# Altium footprint library TT_Pcb.PcbLib: 42 footprints (part 2 of 3)
Each footprint in its own frame and in the unit in brackets; x right, y up, seen from the top. Pads: shape width x height; smd on the part's side, far side on the other; paste and mask are expansions set on the pad; w line width, h text height; cw(c..) or ccw(c..) is an arc to the next point about the centre after c.
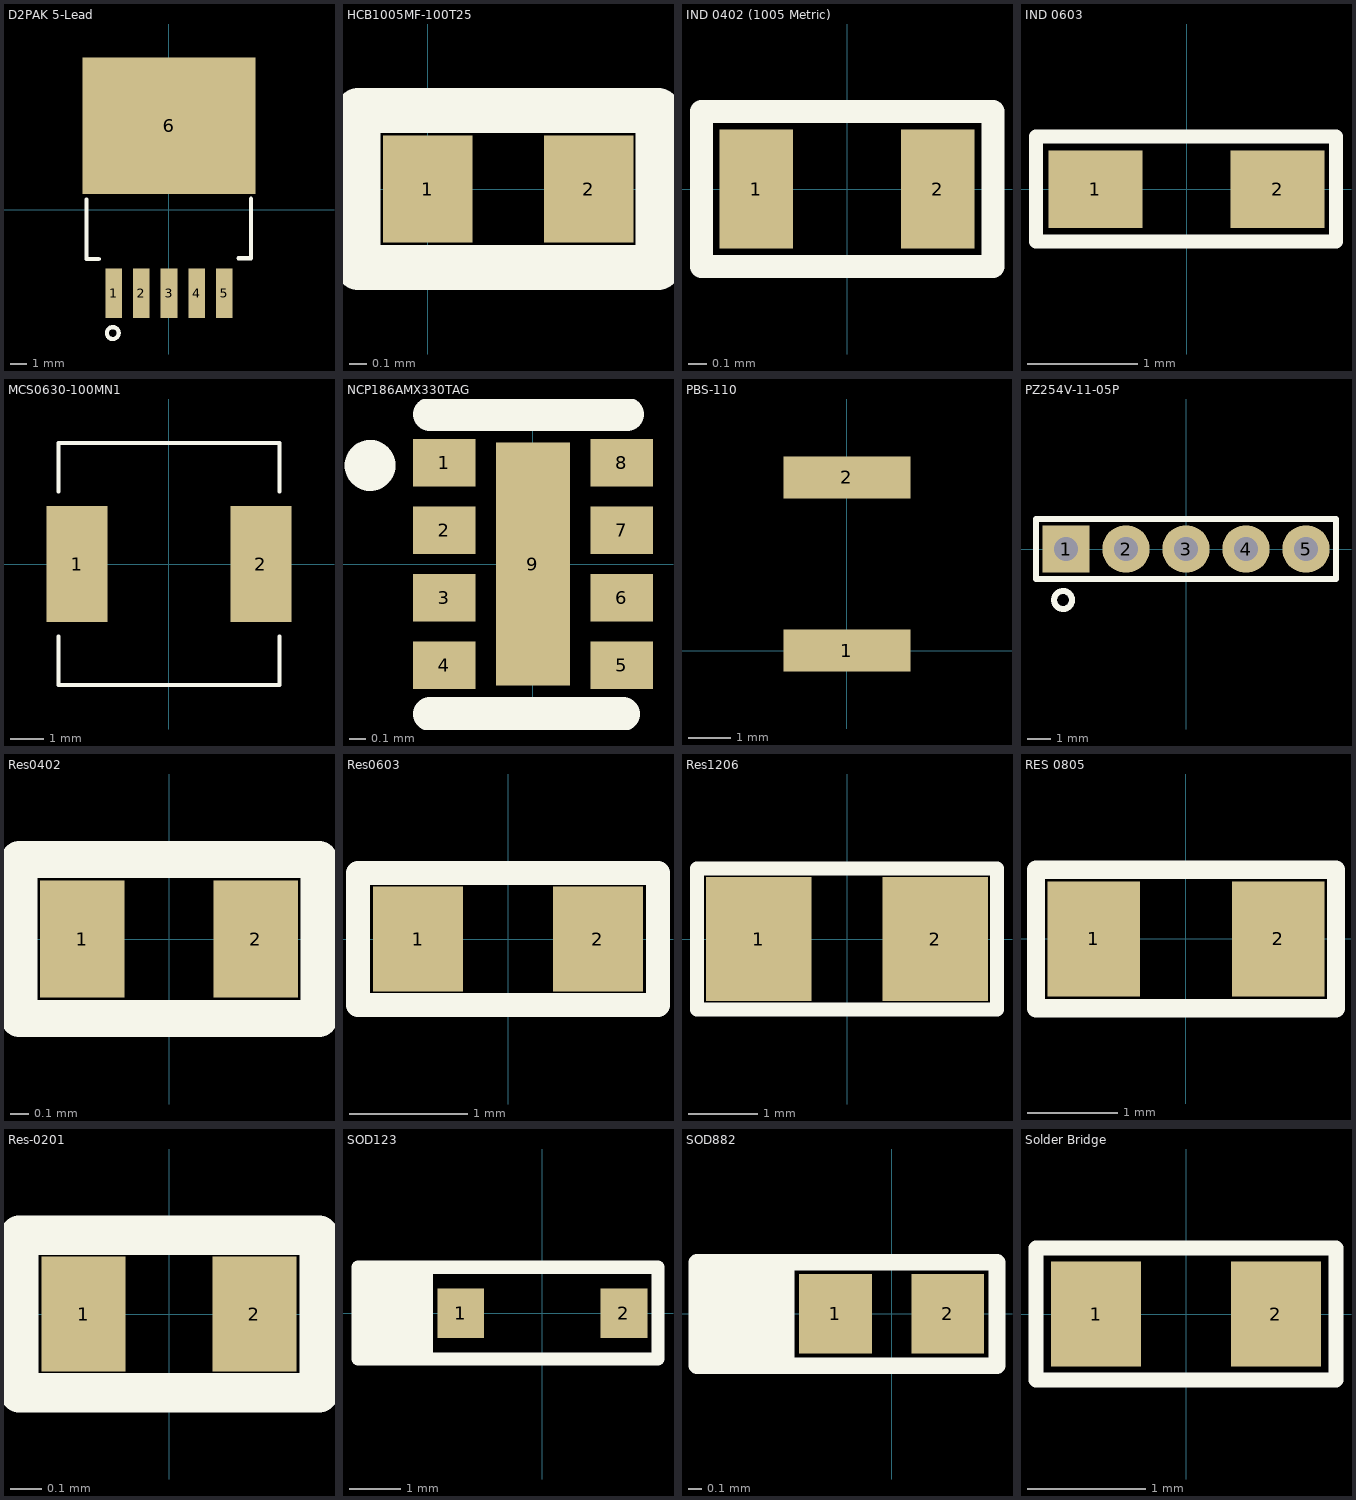
[diagram p1: the footprints below, top view; thin cyan lines are the x and y axes]

## D2PAK 5-Lead [mm] "IC REG MULT CONFG ADJ 3A D2PAK-5"
pads (6):
  rect 1.016x3.05 smd: 1(-3.404,-5.152) 2(-1.702,-5.152) 3(0,-5.152) 4(1.702,-5.152) 5(3.404,-5.152)
  rect 10.66x8.38 smd: 6(0,5.152)
Top Overlay:
  circle w0.254: c-3.454,-7.595 r0.364
  lines w0.254: -5.08,0.61 -5.08,-3.048 -4.318,-3.048 ; 4.267,-2.997 5.029,-2.997 5.029,0.661
3D body "D2PAK-5_ONS.step": height 4.67, standoff 0.05, extent -5.016,-5.334 5.016,6.2

## HCB1005MF-100T25 [mm] "10O @ 100MHz 2.5A 1 50mO 0402 Ferrite Beads RoHS"
pads (2):
  rect 0.5x0.6 smd: 1(0,0) 2(0.9,0)
Top Overlay:
  lines w0.254: -0.39,-0.439 -0.39,0.44 1.288,0.44 1.288,-0.439 -0.39,-0.439
3D body "742841210.stp": height 0.48, standoff -0.02, extent -0.094,-0.25 0.906,0.25

## IND 0402 (1005 Metric) [mm] "FIXED IND 20NH 350MA 600 MOHM"
pads (2):
  rect 0.41x0.66 smd: 1(-0.505,0) 2(0.505,0)
Top Overlay:
  lines w0.127: -0.81,-0.432 0.813,-0.432 0.813,0.432 -0.81,0.432 -0.81,-0.432
3D body "L-W15AN1N3D10D--3DModel-STEP-231308 (1).STEP": height 0.6, standoff 0, extent -0.5,-0.3 0.5,0.3

## IND 0603 [mm]
pads (2):
  rect 0.85x0.7 smd: 1(-0.825,0) 2(0.825,0)
Top Overlay:
  lines w0.127: -1.363,-0.472 -1.363,0.475 1.354,0.475 1.354,-0.472 -1.363,-0.472
3D body "74279266.stp": height 0.8, standoff 0, extent -0.8,-0.4 0.8,0.4

## MCS0630-100MN1 [mm]
pads (2):
  rect 1.85x3.5 smd: 1(-2.775,0) 2(2.775,0)
Top Overlay:
  lines w0.127: -3.33,-2.187 -3.33,-3.65 0,-3.65 3.33,-3.65 3.33,-2.187 ; -3.33,2.187 -3.33,3.65 0,3.65 3.33,3.65 3.33,2.187

## NCP186AMX330TAG [mm]
pads (9):
  rect 0.37x0.28 smd: 1(-0.525,0.6) 2(-0.525,0.2) 3(-0.525,-0.2) 4(-0.525,-0.6) 5(0.525,-0.6) 6(0.525,-0.2) 7(0.525,0.2) 8(0.525,0.6)
  rect 0.44x1.44 smd: 9(0,0)
Top Overlay:
  circle w0.2: c-0.965,0.584 r0.051
  lines w0.2: -0.61,-0.889 0.533,-0.889 ; -0.61,0.889 0.559,0.889
3D body ".stp": height 0.39, standoff -0.01, extent -0.6,-0.8 0.6,0.8

## PBS-110 [mm]
pads (2):
  rect 3x1 smd: 1(0,0) 2(0,4.1)

## PZ254V-11-05P [mm] "Through Hole,P=2.54mm"
pads (5):
  rect 2x2 hole 1.02: 1(-5.08,0)
  round 2 hole 1.02: 2(-2.54,0) 3(0,0) 4(2.54,0) 5(5.08,0)
Top Overlay:
  circle w0.254: c-5.207,-2.159 r0.381
  lines w0.254: -6.35,-1.27 -6.35,1.27 6.35,1.27 6.35,-1.27 -6.35,-1.27
3D body "User Library-zl201-5_p2-54_l12-7_w2-54_h8-89.STEP": height 8.64, standoff -3.3, extent -6.35,-1.27 6.35,1.27

## Res0402 [mil]
pads (2):
  rect 18x25 smd: 1(-18.5,0) 2(18.5,0)
Top Overlay:
  lines w7.87: -32,-17 -32,17 32,17 32,-17 -32,-17
3D body "User Library-RES_1005-0402.step": height 16.14, standoff 0, extent -22.63,-10.82 22.64,10.83

## Res0603 [mil]
pads (2):
  rect 30x35 smd: 1(-30,0) 2(30,0)
Top Overlay:
  lines w7.87: -50,-22 50,-22 50,22 -50,22 -50,-22
3D body "User Library-RESC1608X05N.step": height 17.76, standoff 0, extent -30.52,-16.74 30.51,16.73

## Res1206 [mil]
pads (2):
  rect 60x70 smd: 1(-50,0) 2(50,0)
Top Overlay:
  lines w7.87: -85,-40 85,-40 85,40 -85,40 -85,-40
3D body "User Library-1206 SMD Resistor.step": height 39.45, standoff 0, extent -62.99,-31.49 63,31.51

## RES 0805 [mil] "SMD 0805"
pads (2):
  rect 40x50 smd: 1(-40,0) 2(40,0)
Top Overlay:
  lines w7.87: -65,-30 -65,30 65,30 65,-30 -65,-30
3D body "User Library-CR2012-0805.STEP": height 23.62, standoff 0, extent -39.34,-24.75 39.4,24.46

## Res-0201 [mm]
pads (2):
  rect 0.27x0.37 smd: 1(-0.275,0) 2(0.275,0)
Top Overlay:
  lines w0.127: -0.483,-0.254 -0.483,0.254 0.483,0.254 0.483,-0.254 -0.483,-0.254
3D body "User Library-0201(0603M) Res.step": height 0.29, standoff -0.02, extent -0.305,-0.152 0.305,0.153

## SOD123 [mm] "30V 1A 420mV @ 1A SOD-123"
pads (2):
  rect 0.9x0.95 smd: 1(-1.575,0) 2(1.575,0)
Top Overlay:
  rectangle: -3.556,-0.914 -2.106,0.889
  lines w0.254: -3.556,-0.879 -3.556,0.889 2.232,0.889 2.232,-0.879 -3.556,-0.879
3D body "CircuitWorks-SOD123.STEP": height 1.27, standoff 0, extent -1.85,-0.8 1.85,0.8

## SOD882 [mm] "ESD PROTECTION DIODE"
pads (2):
  rect 0.55x0.6 smd: 1(-0.425,0) 2(0.425,0)
Top Overlay:
  rectangle: -1.472,-0.381 -0.736,0.381
  lines w0.127: -1.472,-0.394 -1.472,0.39 0.797,0.39 0.797,-0.394 -1.472,-0.394
3D body "User Library-SOD882.STEP": height 0.49, standoff -0.01, extent -0.511,-0.311 0.511,0.311

## Solder Bridge [mil] "Solder Bridge ON"
pads (2):
  rect 30x35 smd: 1(-30,0) 2(30,0)
Top Overlay:
  lines w5: -50,-22 -50,22 50,22 50,-22 -50,-22